# EAGLE library part 0058_FH254-108DF08500V (library Connettori)
Female Connector strip for Arduino bases - 8x1 F V h 8,5 p2,54mm
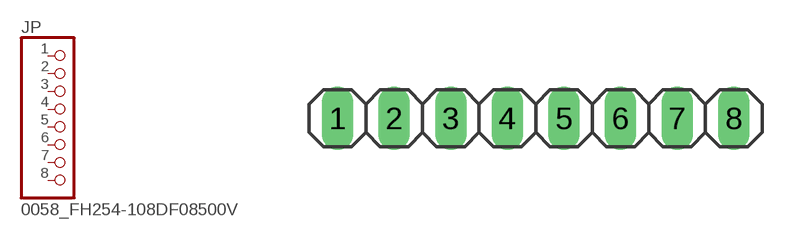
[diagram p1: symbol with the pads of 1X08; footprint 1X08]

Designator prefix JP

## 0058_FH254-108DF08500V (MONTHLY_USAGE: _____; PART_NUMBER: FH254-108DF08500V; PRICE: _____; SUPPLIER: _____; TYPE: Connettori; VALUE: FH254-108DF08500V)  [1X08]
1  1  pas
2  2  pas
3  3  pas
4  4  pas
5  5  pas
6  6  pas
7  7  pas
8  8  pas

## Footprint 1X08 (pad centres in mm)
PIN HEADER
drill 0.85 pad 1.422 long: 1 -8.89,0; 2 -6.35,0; 3 -3.81,0; 4 -1.27,0; 5 1.27,0; 6 3.81,0; 7 6.35,0; 8 8.89,0